# Altium footprint library SMD,4.5x4.0x3.2mm.PcbLib: 1 footprints
Each footprint in its own frame and in the unit in brackets; x right, y up, seen from the top. Pads: shape width x height; smd on the part's side, far side on the other; paste and mask are expansions set on the pad; w line width, h text height; cw(c..) or ccw(c..) is an arc to the next point about the centre after c.
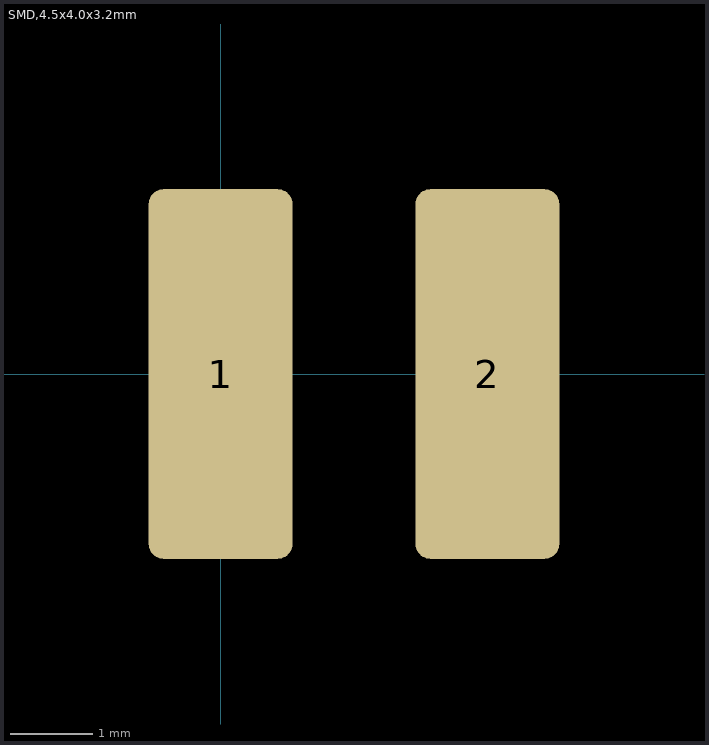
[diagram p0: the footprint, top view; thin cyan lines are the x and y axes]

## SMD,4.5x4.0x3.2mm [mm] "Inductor"
height 3.2
pads (2):
  rrect20% 1.75x4.5 smd: 1(0,0) 2(3.25,0)
3D body: height 3.3, standoff 0.1, extent -0.599,-2.247 3.901,2.247